# Altium integrated library WD Memory LIFO-FIFO Register.IntLib: 10 symbols
Pins are listed as number, name and electrical type; pins without a type are passive.

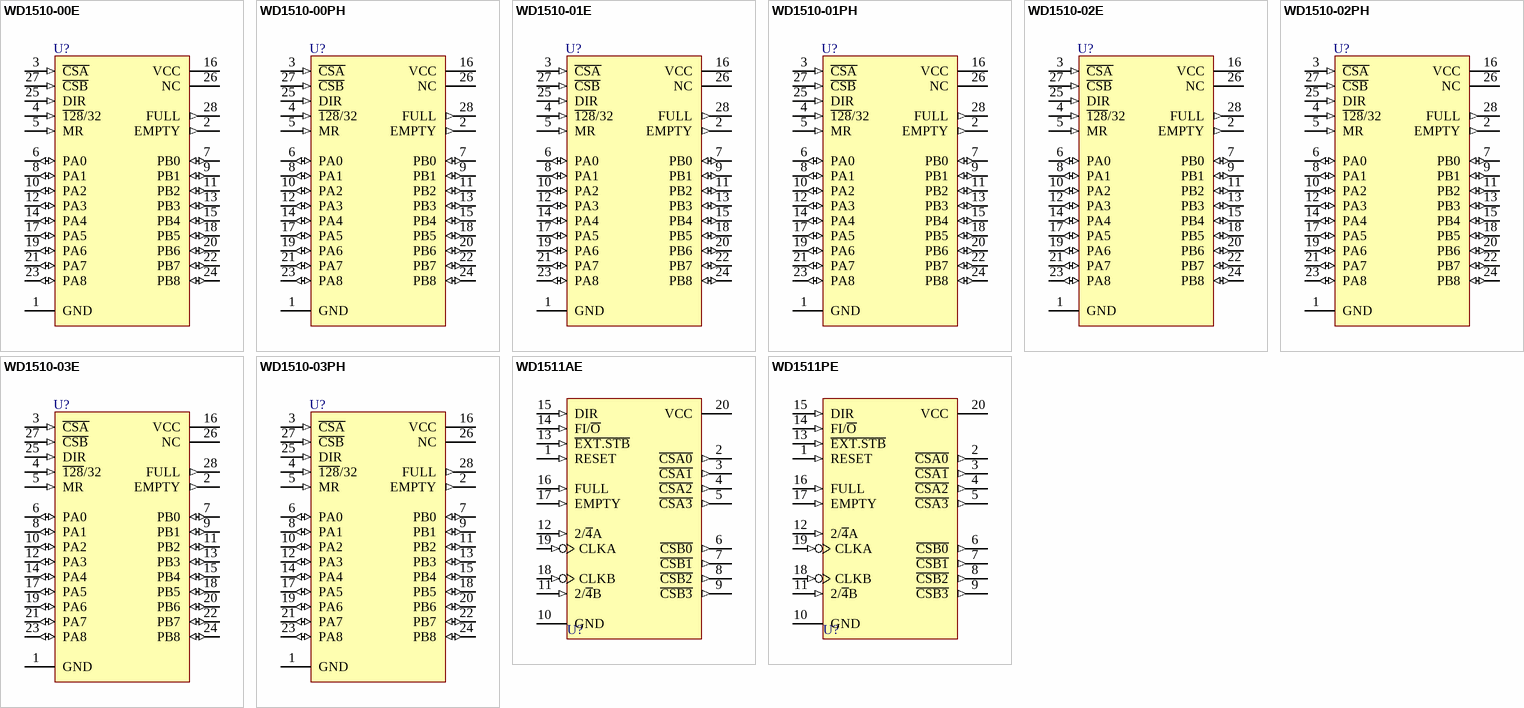
[diagram p0: symbols WD1510-00E to WD1511PE]

## WD1510-00E
designator U?
LIFO/FIFO Buffer Register; PackageDocument: 1984; Published: 8-Jun-2000; LatestRevisionDate: 4-Mar-2005; LatestRevisionNote: Stylized 3D Model Added.; DatasheetDocument: 1984; PackageReference: E28; Publisher: Altium Limited; ComponentLink1Description: Manufacturer Link; ComponentLink1URL: http://www.wdc.com/
footprint E28 (DIP; 28 Leads; Row Spacing 15.24 mm; Pitch 2.54 mm)
3D model E28 (DIP; 28 Leads; Row Spacing 15.24 mm; Pitch 2.54 mm)
pins: 1 GND (power), 2 EMPTY (out), 3 ~{CSA} (in), 4 ~{128}/32 (in), 5 MR (in), 6 PA0 (io), 7 PB0 (io), 8 PA1 (io), 9 PB1 (io), 10 PA2 (io), 11 PB2 (io), 12 PA3 (io), 13 PB3 (io), 14 PA4 (io), 15 PB4 (io), 16 VCC (power), 17 PA5 (io), 18 PB5 (io), 19 PA6 (io), 20 PB6 (io), 21 PA7 (io), 22 PB7 (io), 23 PA8 (io), 24 PB8 (io), 25 DIR (in), 26 NC, 27 ~{CSB} (in), 28 FULL (out)

## WD1510-00PH
designator U?
LIFO/FIFO Buffer Register; PackageDocument: 1984; Published: 8-Jun-2000; LatestRevisionDate: 4-Mar-2005; LatestRevisionNote: Stylized 3D Model Added.; DatasheetDocument: 1984; PackageReference: PH28; Publisher: Altium Limited; ComponentLink1Description: Manufacturer Link; ComponentLink1URL: http://www.wdc.com/
footprint PH28 (DIP; 28 Leads; Row Spacing 15.24 mm; Pitch 2.54 mm)
3D model PH28 (DIP; 28 Leads; Row Spacing 15.24 mm; Pitch 2.54 mm)
pins: 1 GND (power), 2 EMPTY (out), 3 ~{CSA} (in), 4 ~{128}/32 (in), 5 MR (in), 6 PA0 (io), 7 PB0 (io), 8 PA1 (io), 9 PB1 (io), 10 PA2 (io), 11 PB2 (io), 12 PA3 (io), 13 PB3 (io), 14 PA4 (io), 15 PB4 (io), 16 VCC (power), 17 PA5 (io), 18 PB5 (io), 19 PA6 (io), 20 PB6 (io), 21 PA7 (io), 22 PB7 (io), 23 PA8 (io), 24 PB8 (io), 25 DIR (in), 26 NC, 27 ~{CSB} (in), 28 FULL (out)

## WD1510-01E
designator U?
LIFO/FIFO Buffer Register; PackageDocument: 1984; Published: 8-Jun-2000; LatestRevisionDate: 4-Mar-2005; LatestRevisionNote: Stylized 3D Model Added.; DatasheetDocument: 1984; PackageReference: E28; Publisher: Altium Limited; ComponentLink1Description: Manufacturer Link; ComponentLink1URL: http://www.wdc.com/
footprint E28 (DIP; 28 Leads; Row Spacing 15.24 mm; Pitch 2.54 mm)
3D model E28 (DIP; 28 Leads; Row Spacing 15.24 mm; Pitch 2.54 mm)
pins: 1 GND (power), 2 EMPTY (out), 3 ~{CSA} (in), 4 ~{128}/32 (in), 5 MR (in), 6 PA0 (io), 7 PB0 (io), 8 PA1 (io), 9 PB1 (io), 10 PA2 (io), 11 PB2 (io), 12 PA3 (io), 13 PB3 (io), 14 PA4 (io), 15 PB4 (io), 16 VCC (power), 17 PA5 (io), 18 PB5 (io), 19 PA6 (io), 20 PB6 (io), 21 PA7 (io), 22 PB7 (io), 23 PA8 (io), 24 PB8 (io), 25 DIR (in), 26 NC, 27 ~{CSB} (in), 28 FULL (out)

## WD1510-01PH
designator U?
LIFO/FIFO Buffer Register; PackageDocument: 1984; Published: 8-Jun-2000; LatestRevisionDate: 4-Mar-2005; LatestRevisionNote: Stylized 3D Model Added.; DatasheetDocument: 1984; PackageReference: PH28; Publisher: Altium Limited; ComponentLink1Description: Manufacturer Link; ComponentLink1URL: http://www.wdc.com/
footprint PH28 (DIP; 28 Leads; Row Spacing 15.24 mm; Pitch 2.54 mm)
3D model PH28 (DIP; 28 Leads; Row Spacing 15.24 mm; Pitch 2.54 mm)
pins: 1 GND (power), 2 EMPTY (out), 3 ~{CSA} (in), 4 ~{128}/32 (in), 5 MR (in), 6 PA0 (io), 7 PB0 (io), 8 PA1 (io), 9 PB1 (io), 10 PA2 (io), 11 PB2 (io), 12 PA3 (io), 13 PB3 (io), 14 PA4 (io), 15 PB4 (io), 16 VCC (power), 17 PA5 (io), 18 PB5 (io), 19 PA6 (io), 20 PB6 (io), 21 PA7 (io), 22 PB7 (io), 23 PA8 (io), 24 PB8 (io), 25 DIR (in), 26 NC, 27 ~{CSB} (in), 28 FULL (out)

## WD1510-02E
designator U?
LIFO/FIFO Buffer Register; PackageDocument: 1984; Published: 8-Jun-2000; LatestRevisionDate: 4-Mar-2005; LatestRevisionNote: Stylized 3D Model Added.; DatasheetDocument: 1984; PackageReference: E28; Publisher: Altium Limited; ComponentLink1Description: Manufacturer Link; ComponentLink1URL: http://www.wdc.com/
footprint E28 (DIP; 28 Leads; Row Spacing 15.24 mm; Pitch 2.54 mm)
3D model E28 (DIP; 28 Leads; Row Spacing 15.24 mm; Pitch 2.54 mm)
pins: 1 GND (power), 2 EMPTY (out), 3 ~{CSA} (in), 4 ~{128}/32 (in), 5 MR (in), 6 PA0 (io), 7 PB0 (io), 8 PA1 (io), 9 PB1 (io), 10 PA2 (io), 11 PB2 (io), 12 PA3 (io), 13 PB3 (io), 14 PA4 (io), 15 PB4 (io), 16 VCC (power), 17 PA5 (io), 18 PB5 (io), 19 PA6 (io), 20 PB6 (io), 21 PA7 (io), 22 PB7 (io), 23 PA8 (io), 24 PB8 (io), 25 DIR (in), 26 NC, 27 ~{CSB} (in), 28 FULL (out)

## WD1510-02PH
designator U?
LIFO/FIFO Buffer Register; PackageDocument: 1984; Published: 8-Jun-2000; LatestRevisionDate: 4-Mar-2005; LatestRevisionNote: Stylized 3D Model Added.; DatasheetDocument: 1984; PackageReference: PH28; Publisher: Altium Limited; ComponentLink1Description: Manufacturer Link; ComponentLink1URL: http://www.wdc.com/
footprint PH28 (DIP; 28 Leads; Row Spacing 15.24 mm; Pitch 2.54 mm)
3D model PH28 (DIP; 28 Leads; Row Spacing 15.24 mm; Pitch 2.54 mm)
pins: 1 GND (power), 2 EMPTY (out), 3 ~{CSA} (in), 4 ~{128}/32 (in), 5 MR (in), 6 PA0 (io), 7 PB0 (io), 8 PA1 (io), 9 PB1 (io), 10 PA2 (io), 11 PB2 (io), 12 PA3 (io), 13 PB3 (io), 14 PA4 (io), 15 PB4 (io), 16 VCC (power), 17 PA5 (io), 18 PB5 (io), 19 PA6 (io), 20 PB6 (io), 21 PA7 (io), 22 PB7 (io), 23 PA8 (io), 24 PB8 (io), 25 DIR (in), 26 NC, 27 ~{CSB} (in), 28 FULL (out)

## WD1510-03E
designator U?
LIFO/FIFO Buffer Register; PackageDocument: 1984; Published: 8-Jun-2000; LatestRevisionDate: 4-Mar-2005; LatestRevisionNote: Stylized 3D Model Added.; DatasheetDocument: 1984; PackageReference: E28; Publisher: Altium Limited; ComponentLink1Description: Manufacturer Link; ComponentLink1URL: http://www.wdc.com/
footprint E28 (DIP; 28 Leads; Row Spacing 15.24 mm; Pitch 2.54 mm)
3D model E28 (DIP; 28 Leads; Row Spacing 15.24 mm; Pitch 2.54 mm)
pins: 1 GND (power), 2 EMPTY (out), 3 ~{CSA} (in), 4 ~{128}/32 (in), 5 MR (in), 6 PA0 (io), 7 PB0 (io), 8 PA1 (io), 9 PB1 (io), 10 PA2 (io), 11 PB2 (io), 12 PA3 (io), 13 PB3 (io), 14 PA4 (io), 15 PB4 (io), 16 VCC (power), 17 PA5 (io), 18 PB5 (io), 19 PA6 (io), 20 PB6 (io), 21 PA7 (io), 22 PB7 (io), 23 PA8 (io), 24 PB8 (io), 25 DIR (in), 26 NC, 27 ~{CSB} (in), 28 FULL (out)

## WD1510-03PH
designator U?
LIFO/FIFO Buffer Register; PackageDocument: 1984; Published: 8-Jun-2000; LatestRevisionDate: 4-Mar-2005; LatestRevisionNote: Stylized 3D Model Added.; DatasheetDocument: 1984; PackageReference: PH28; Publisher: Altium Limited; ComponentLink1Description: Manufacturer Link; ComponentLink1URL: http://www.wdc.com/
footprint PH28 (DIP; 28 Leads; Row Spacing 15.24 mm; Pitch 2.54 mm)
3D model PH28 (DIP; 28 Leads; Row Spacing 15.24 mm; Pitch 2.54 mm)
pins: 1 GND (power), 2 EMPTY (out), 3 ~{CSA} (in), 4 ~{128}/32 (in), 5 MR (in), 6 PA0 (io), 7 PB0 (io), 8 PA1 (io), 9 PB1 (io), 10 PA2 (io), 11 PB2 (io), 12 PA3 (io), 13 PB3 (io), 14 PA4 (io), 15 PB4 (io), 16 VCC (power), 17 PA5 (io), 18 PB5 (io), 19 PA6 (io), 20 PB6 (io), 21 PA7 (io), 22 PB7 (io), 23 PA8 (io), 24 PB8 (io), 25 DIR (in), 26 NC, 27 ~{CSB} (in), 28 FULL (out)

## WD1511AE
designator U?
LIFO/FIFO Support Device; PackageDocument: 1984; Published: 8-Jun-2000; LatestRevisionDate: 4-Mar-2005; LatestRevisionNote: Stylized 3D Model Added.; DatasheetDocument: 1984; PackageReference: AE20; Publisher: Altium Limited; ComponentLink1Description: Manufacturer Link; ComponentLink1URL: http://www.wdc.com/; Code_JEDEC: MS-015-AE
footprint AE20 (DIP; 20 Leads; Row Spacing 7.62 mm; Pitch 2.54 mm)
3D model AE20 (DIP; 20 Leads; Row Spacing 7.62 mm; Pitch 2.54 mm)
pins: 1 RESET (in), 2 ~{CSA0} (out), 3 ~{CSA1} (out), 4 ~{CSA2} (out), 5 ~{CSA3} (out), 6 ~{CSB0} (out), 7 ~{CSB1} (out), 8 ~{CSB2} (out), 9 ~{CSB3} (out), 10 GND (power), 11 2/~{4}B (in), 12 2/~{4}A (in), 13 ~{EXT.STB} (in), 14 FI/~{O} (in), 15 DIR (in), 16 FULL (in), 17 EMPTY (in), 18 CLKB (in), 19 CLKA (in), 20 VCC (power)

## WD1511PE
designator U?
LIFO/FIFO Support Device; PackageDocument: 1984; Published: 8-Jun-2000; LatestRevisionDate: 4-Mar-2005; LatestRevisionNote: Stylized 3D Model Added.; DatasheetDocument: 1984; PackageReference: PE20; Publisher: Altium Limited; ComponentLink1Description: Manufacturer Link; ComponentLink1URL: http://www.wdc.com/; Code_JEDEC: MS-001-AD
footprint PE20 (DIP; 20 Leads; Row Spacing 7.62 mm; Pitch 2.54 mm)
3D model PE20 (DIP; 20 Leads; Row Spacing 7.62 mm; Pitch 2.54 mm)
pins: 1 RESET (in), 2 ~{CSA0} (out), 3 ~{CSA1} (out), 4 ~{CSA2} (out), 5 ~{CSA3} (out), 6 ~{CSB0} (out), 7 ~{CSB1} (out), 8 ~{CSB2} (out), 9 ~{CSB3} (out), 10 GND (power), 11 2/~{4}B (in), 12 2/~{4}A (in), 13 ~{EXT.STB} (in), 14 FI/~{O} (in), 15 DIR (in), 16 FULL (in), 17 EMPTY (in), 18 CLKB (in), 19 CLKA (in), 20 VCC (power)